# EAGLE library part STM32F103CX (library angrypig7-IC-MCU)
ST STM32F101/103 48pin LQFP
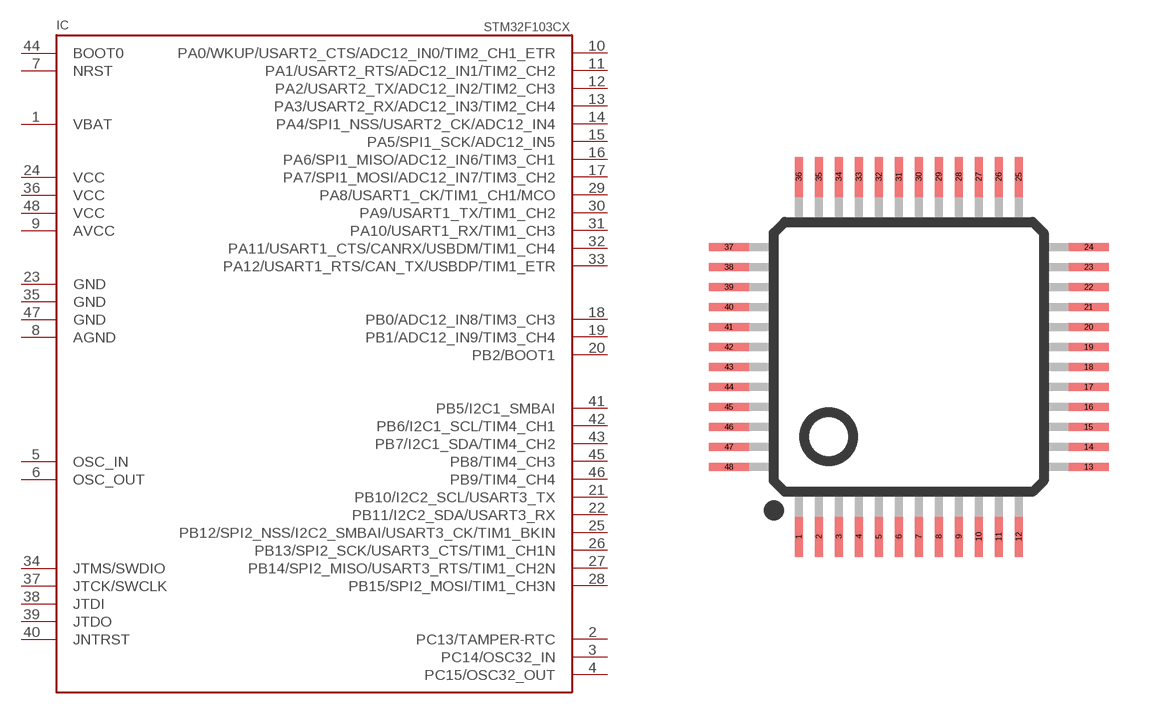
[diagram p13: symbol with the pads of TQFP48; footprint TQFP48]

Designator prefix IC

## STM32F103CX  [TQFP48]
1  VBAT  pwr
2  PC13/TAMPER-RTC
3  PC14/OSC32_IN
4  PC15/OSC32_OUT
5  OSC_IN  in
6  OSC_OUT  out
7  NRST
8  AGND  pwr
9  AVCC  pwr
10  PA0/WKUP/USART2_CTS/ADC12_IN0/TIM2_CH1_ETR
11  PA1/USART2_RTS/ADC12_IN1/TIM2_CH2
12  PA2/USART2_TX/ADC12_IN2/TIM2_CH3
13  PA3/USART2_RX/ADC12_IN3/TIM2_CH4
14  PA4/SPI1_NSS/USART2_CK/ADC12_IN4
15  PA5/SPI1_SCK/ADC12_IN5
16  PA6/SPI1_MISO/ADC12_IN6/TIM3_CH1
17  PA7/SPI1_MOSI/ADC12_IN7/TIM3_CH2
18  PB0/ADC12_IN8/TIM3_CH3
19  PB1/ADC12_IN9/TIM3_CH4
20  PB2/BOOT1
21  PB10/I2C2_SCL/USART3_TX
22  PB11/I2C2_SDA/USART3_RX
23  GND  pwr
24  VCC  pwr
25  PB12/SPI2_NSS/I2C2_SMBAI/USART3_CK/TIM1_BKIN
26  PB13/SPI2_SCK/USART3_CTS/TIM1_CH1N
27  PB14/SPI2_MISO/USART3_RTS/TIM1_CH2N
28  PB15/SPI2_MOSI/TIM1_CH3N
29  PA8/USART1_CK/TIM1_CH1/MCO
30  PA9/USART1_TX/TIM1_CH2
31  PA10/USART1_RX/TIM1_CH3
32  PA11/USART1_CTS/CANRX/USBDM/TIM1_CH4
33  PA12/USART1_RTS/CAN_TX/USBDP/TIM1_ETR
34  JTMS/SWDIO
35  GND  pwr
36  VCC  pwr
37  JTCK/SWCLK
38  JTDI
39  JTDO
40  JNTRST
41  PB5/I2C1_SMBAI
42  PB6/I2C1_SCL/TIM4_CH1
43  PB7/I2C1_SDA/TIM4_CH2
44  BOOT0
45  PB8/TIM4_CH3
46  PB9/TIM4_CH4
47  GND  pwr
48  VCC  pwr

## Footprint TQFP48 (pad centres in mm)
smd 0.2 x 1: 1 -2.75,-4.5; 2 -2.25,-4.5; 3 -1.75,-4.5; 4 -1.25,-4.5; 5 -0.75,-4.5; 6 -0.25,-4.5; 7 0.25,-4.5; 8 0.75,-4.5; 9 1.25,-4.5; 10 1.75,-4.5; 11 2.25,-4.5; 12 2.75,-4.5; 25 2.75,4.5; 26 2.25,4.5; 27 1.75,4.5; 28 1.25,4.5; 29 0.75,4.5; 30 0.25,4.5; 31 -0.25,4.5; 32 -0.75,4.5; 33 -1.25,4.5; 34 -1.75,4.5; 35 -2.25,4.5; 36 -2.75,4.5
smd 1 x 0.2: 13 4.5,-2.75; 14 4.5,-2.25; 15 4.5,-1.75; 16 4.5,-1.25; 17 4.5,-0.75; 18 4.5,-0.25; 19 4.5,0.25; 20 4.5,0.75; 21 4.5,1.25; 22 4.5,1.75; 23 4.5,2.25; 24 4.5,2.75; 37 -4.5,2.75; 38 -4.5,2.25; 39 -4.5,1.75; 40 -4.5,1.25; 41 -4.5,0.75; 42 -4.5,0.25; 43 -4.5,-0.25; 44 -4.5,-0.75; 45 -4.5,-1.25; 46 -4.5,-1.75; 47 -4.5,-2.25; 48 -4.5,-2.75